# Altium footprint library DoryPcbLib.PcbLib: 24 footprints (part 1 of 2)
Each footprint in its own frame and in the unit in brackets; x right, y up, seen from the top. Pads: shape width x height; smd on the part's side, far side on the other; paste and mask are expansions set on the pad; w line width, h text height; cw(c..) or ccw(c..) is an arc to the next point about the centre after c.
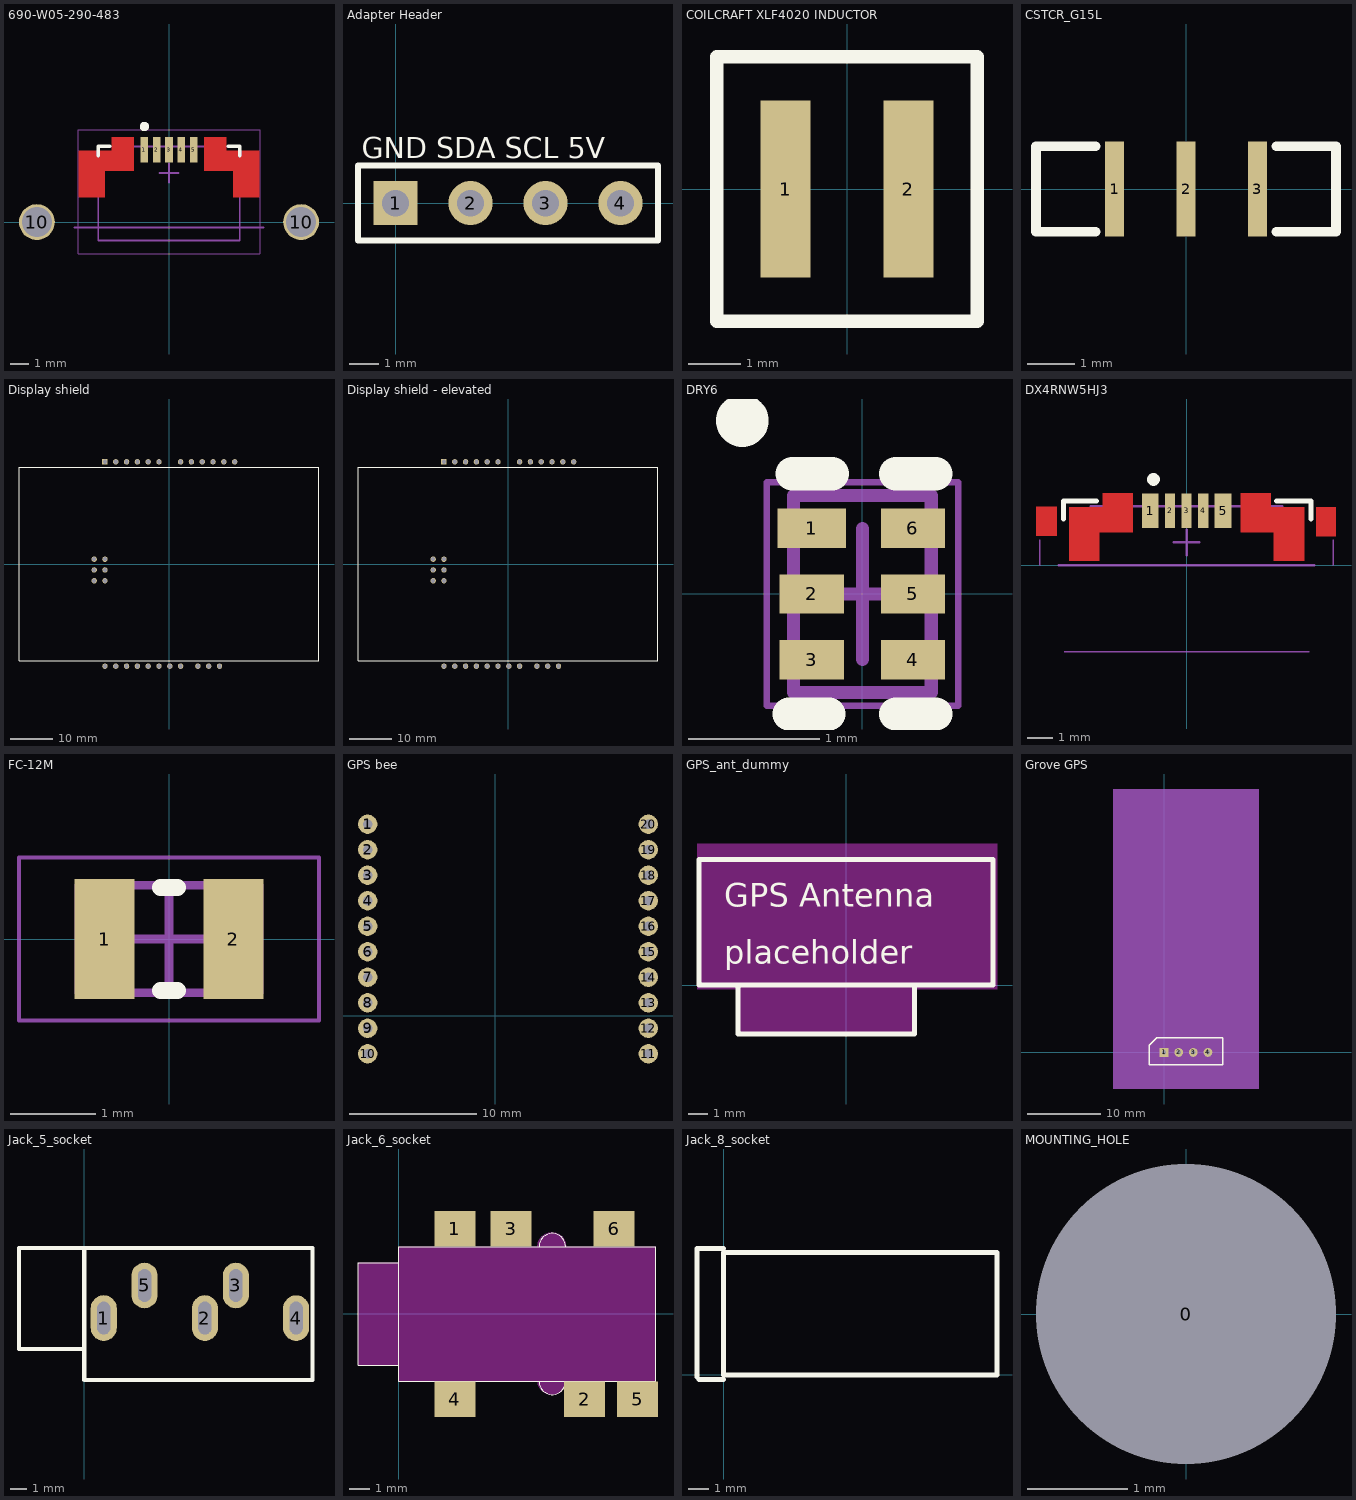
[diagram p0: the footprints below, top view; thin cyan lines are the x and y axes]

## 690-W05-290-483 [mm] "USB Micro-AB Connector, 5-Leads, Pitch 0.65mm"
height 3.625
pads (7):
  rect 0.4x1.35 smd: 1(-1.3,3.838) 2(-0.65,3.837) 3(0,3.838) 4(0.65,3.838) 5(1.3,3.838)
  round 1.9 hole 1.6: 10(-7,0) 10(7,0)
Top Layer:
  rectangle: 1.85,2.7 3.05,4.5
  rectangle: -3.05,2.7 -1.85,4.5
  rectangle: 1.85,2.7 4.79,3.8
  rectangle: -4.79,2.7 -1.85,3.8
  rectangle: 3.4,1.3 4.79,3.8
  rectangle: -4.79,1.3 -3.4,3.8
Top Overlay:
  circle w0.25: c-1.3,5.063 r0.125
  lines w0.2: -3.75,3.51 -3.75,4.012 -3.149,4.012 ; 3.149,4.012 3.75,4.012 3.75,3.51
Mechanical 3:
  lines w0.1: -5,-0.288 5,-0.288
  text "board edge" at -7.112,-0.321 h0.2
Mechanical 13:
  lines w0.1: -3.75,-0.988 -3.75,4.013 3.75,4.013 3.75,-0.987 -3.75,-0.988
Mechanical 15:
  lines w0.05: -4.8,4.888 4.8,4.888 4.8,-1.686 -4.8,-1.686 -4.8,4.888
  lines w0.1: -0.5,2.6 0.5,2.6 ; 0,2.1 0,3.1
3D body: height 0.55, standoff -0.6, extent -4.373,0.684 -3.603,1.534
3D body: height 1.79, standoff 0.71, extent -4,-1.587 -3.5,-0.986
3D body: height 0.25, standoff 0, extent -1.45,3.141 -1.143,4.284
3D body: height 2.5, standoff 2.25, extent -0.967,3.862 0.972,4.462
3D body: height 0.25, standoff 0, extent -0.8,3.141 -0.493,4.284
3D body: height 0.25, standoff 0, extent -0.15,3.141 0.157,4.284
3D body: height 0.25, standoff 0, extent 0.5,3.141 0.807,4.284
3D body: height 0.25, standoff 0, extent 1.15,3.141 1.457,4.285
3D body: height 0.25, standoff -0.32, extent -3.05,-1.586 3.05,-0.986
3D body: height 1.79, standoff 0.71, extent 3.5,-1.588 4,-0.986
3D body: height 0.55, standoff -0.6, extent 3.603,0.684 4.373,1.535
3D body: height 0.25, standoff 0, extent -3.25,2.812 3.25,3.143
3D body: height 2.5, standoff -0.01, extent -3.754,2.813 3.757,4.013
3D body: height 2.25, standoff -0.85, extent -2.379,3.862 2.387,4.463
3D body: height 2.51, standoff -0.01, extent -3.756,-0.987 3.757,2.813

## Adapter Header [mm] "Connector; Header; 4 Position"
pads (4):
  rect 1.5x1.5 hole 0.9: 1(0,0)
  round 1.5 hole 0.9: 2(2.54,0) 3(5.08,0) 4(7.62,0)
Top Overlay:
  lines w0.2: -1.27,-1.27 8.89,-1.27 8.89,1.27 -1.27,1.27 -1.27,-1.27
  text "GND SDA SCL 5V" at -1.143,1.524 h0.7

## COILCRAFT XLF4020 INDUCTOR [mil]
pads (2):
  rect 38x134 smd: 1(-46.5,0) 2(46.5,0)
Top Overlay:
  lines w10: -98.5,-100 -98.5,0 -98.5,100 98.5,100 98.5,-100 -98.5,-100

## CSTCR_G15L [mm]
pads (3):
  rect 0.4x2 smd: 1(-1.5,0) 2(0,0) 3(1.5,0)
Top Overlay:
  lines w0.2: -1.9,-0.9 -3.15,-0.9 -3.15,0.9 -1.9,0.9 ; 1.9,-0.9 3.15,-0.9 3.15,0.9 1.9,0.9

## Display shield [mil]
pads (29):
  round 50 hole 39: 3V3(507.5,945) 5V(407.5,945) A0(-92.5,945) A1(-192.5,945) A2(-292.5,945) A3(-392.5,945) A4(-492.5,945) D0(-592.5,-945) D1(-492.5,-945) D2(-392.5,-945) D3(-292.5,-945) D4(-192.5,-945) D5(-92.5,-945) D6(7.5,-945) D7(107.5,-945) D8(267.5,-945) D9(367.5,-945) D10(467.5,-945) GND0(207.5,945) GND1(307.5,945) GND2(-692.5,45) MISO(-592.5,-155) MOSI(-692.5,-55) NC0(-692.5,-155) NC1(-592.5,45) RST(607.5,945) SCK(-592.5,-55) VIN(107.5,945)
  rect 50x50 hole 39: A5(-592.5,945)
Top Overlay:
  lines w10: -1387.5,-895 1387.5,-895 1387.5,895 -1387.5,895 -1387.5,-895

## Display shield - elevated [mil]
pads (29):
  round 50 hole 39: 3V3(507.5,945) 5V(407.5,945) A0(-92.5,945) A1(-192.5,945) A2(-292.5,945) A3(-392.5,945) A4(-492.5,945) D0(-592.5,-945) D1(-492.5,-945) D2(-392.5,-945) D3(-292.5,-945) D4(-192.5,-945) D5(-92.5,-945) D6(7.5,-945) D7(107.5,-945) D8(267.5,-945) D9(367.5,-945) D10(467.5,-945) GND0(207.5,945) GND1(307.5,945) GND2(-692.5,45) MISO(-592.5,-155) MOSI(-692.5,-55) NC0(-692.5,-155) NC1(-592.5,45) RST(607.5,945) SCK(-592.5,-55) VIN(107.5,945)
  rect 50x50 hole 39: A5(-592.5,945)
Top Overlay:
  lines w10: -1387.5,-895 -1387.5,895 1387.5,895 1387.5,-895 -1387.5,-895
3D body: height 602.36, standoff 106.3, extent -1380.26,-1075 2025.25,1070.67

## DRY6 [mm] "PSON, 6-Leads, Body 1x1.45mm, Pitch 0.5mm, TI Recommended"
height 0.6
pads (6):
  rect 0.52x0.3 smd paste+0 mask+0.05: 1(-0.385,0.5)
  rect 0.49x0.3 smd paste+0 mask+0.05: 2(-0.385,0) 3(-0.385,-0.5) 4(0.385,-0.5) 5(0.385,0) 6(0.385,0.5)
Top Overlay:
  circle w0.3: c-0.914,1.321 r0.05
  lines w0.254: -0.559,-0.914 -0.254,-0.914 ; -0.533,0.914 -0.229,0.914 ; 0.254,-0.914 0.559,-0.914 ; 0.254,0.914 0.559,0.914
Mechanical 13:
  lines w0.1: -0.525,-0.75 -0.525,0.75 0.525,0.75 0.525,-0.75 -0.525,-0.75
Mechanical 15:
  lines w0.05: -0.73,-0.85 -0.73,0.85 0.73,0.85 0.73,-0.85 -0.73,-0.85
  lines w0.1: -0.5,0 0.5,0 ; 0,-0.5 0,0.5
3D body: height 0.6, standoff 0, extent -0.525,-0.75 0.525,0.75

## DX4RNW5HJ3 [mm] "USB Micro-AB Connector, 5-Leads, Pitch 0.65mm"
height 3.625
pads (5):
  rect 0.65x1.35 smd: 1(-1.425,2.137) 5(1.425,2.137)
  rect 0.4x1.35 smd: 2(-0.65,2.137) 3(0,2.137) 4(0.65,2.137)
Top Layer:
  rectangle: -5.9,1.15 -5.075,2.3
  rectangle: 5.075,1.125 5.85,2.275
  rectangle: 2.1,1.275 3.3,2.825
  rectangle: -3.3,1.275 -2.1,2.825
  rectangle: 2.1,1.275 4.61,2.275
  rectangle: 3.41,0.175 4.61,2.275
  rectangle: -4.61,0.175 -3.41,2.275
  rectangle: -4.61,1.275 -2.1,2.275
Top Overlay:
  circle w0.25: c-1.3,3.362 r0.125
  lines w0.2: -4.825,1.809 -4.825,2.525 -3.525,2.525 ; 3.525,2.525 4.875,2.525 4.875,1.809
Mechanical 3:
  lines w0.1: -5,0 5,0
  text "board edge" at -7.112,0 h0.2
Mechanical 13:
  lines w0.1: -3.75,2.312 3.75,2.312
Mechanical 15:
  lines w0.05: -5.75,0 -5.75,1 ; -4.8,-3.387 4.8,-3.387 ; 5.75,0 5.75,1
  lines w0.1: -0.5,0.899 0.5,0.899 ; 0,0.399 0,1.399
3D body: height 0.25, standoff 0, extent -1.45,1.441 -1.143,2.584
3D body: height 0.25, standoff 0, extent -0.8,1.441 -0.493,2.584
3D body: height 0.25, standoff 0, extent -0.15,1.441 0.157,2.584
3D body: height 0.25, standoff 0, extent 1.15,1.441 1.457,2.584
3D body: height 0.25, standoff 0, extent 0.5,1.441 0.807,2.584
3D body: height 3.92, standoff -0.53, extent -5.75,-3.3 5.75,1.7

## FC-12M [mm] "Epson kHz range crystal unit"
height 0.6
pads (2):
  rect 0.7x1.4 smd: 1(-0.75,0) 2(0.75,0)
Top Overlay:
  lines w0.2: -0.1,-0.6 0.1,-0.6 ; -0.1,0.6 0.1,0.6
Mechanical 13:
  lines w0.1: -1.05,-0.625 1.05,-0.625 1.05,0.625 -1.05,0.625 -1.05,-0.625
Mechanical 15:
  lines w0.05: -1.75,-0.95 1.75,-0.95 1.75,0.95 -1.75,0.95 -1.75,-0.95
  lines w0.1: -0.5,0 0.5,0 ; 0,-0.5 0,0.5
3D body: height 0.6, standoff 0, extent 0.35,-0.625 1.05,0.625
3D body: height 0.6, standoff 0, extent -1.05,-0.625 -0.35,0.625
3D body: height 0.6, standoff 0, extent -0.35,-0.625 0.35,0.625

## GPS bee [mil]
pads (20):
  round 60 hole 30: 1(-393.7,590.55) 2(-393.7,511.81) 3(-393.7,433.07) 4(-393.7,354.33) 5(-393.7,275.59) 6(-393.7,196.85) 7(-393.7,118.11) 8(-393.7,39.37) 9(-393.7,-39.37) 10(-393.7,-118.11) 11(472.44,-118.11) 12(472.44,-39.37) 13(472.44,39.37) 14(472.44,118.11) 15(472.44,196.85) 16(472.44,275.59) 17(472.44,354.33) 18(472.44,433.07) 19(472.44,511.81) 20(472.44,590.55)
3D body: height 137.8, standoff -157.48, extent -442.92,-202.75 521.65,895.67

## GPS_ant_dummy [mil]
height 590.55
Top Overlay:
  lines w10: -216.54,0 -216.54,-98.43 137.8,-98.43 137.8,-3.94 ; -295.28,0 -295.28,251.97 295.28,251.97 295.28,0 -295.28,0
  text "placeholder" at -244.09,43.31 h47.24
  text "GPS Antenna" at -244.09,157.48 h47.24
Keep-Out Layer:
  board cut-out: -216.54,-98.43 137.8,-98.43 137.8,0 -216.54,0
  board cut-out: -299.21,-7.87 303.15,-7.87 303.15,283.46 -299.21,283.46
3D body: height 354.33, standoff -314.96, extent -295.28,0 295.28,251.97

## Grove GPS [mm]
pads (4):
  rect 1.2x1.2 hole 0.6: 1(0,0)
  round 1.2 hole 0.6: 2(2,0) 3(4,0) 4(6,0)
Top Overlay:
  lines w0.2: -2,-1.702 -2,1 -1,2 8,2 8,-1.702 -2,-1.702
Mechanical 15:
  rectangle: -7,-5 13,36
3D body: height 12, standoff 10, extent -7,-5 13,36

## Jack_5_socket [mm] "jack with 5 connectors (model number PJ-325 on alibaba.com)"
pads (5):
  oval 1.6x2.8 hole 0.8 slot 2 at 90 deg: 1(1.2,14.7) 2(7.4,14.7) 3(9.3,16.7) 4(13,14.7) 5(3.7,16.7)
Top Overlay:
  lines w0.254: 0,12.8 -4,12.8 -4,19 0,19 ; 0,19 0,10.9 14,10.9 14,19 0,19
3D body: height 12.21, standoff -3.59, extent -4.022,10.922 13.978,19.022

## Jack_6_socket [mm] "jack with 8 connectors Seeed SKU 32004003 (ST-PJ-930A)"
height 4.2
pads (6):
  rect 2x1.75 smd: 1(2.75,4.175) 2(9.1,-4.175) 3(5.5,4.175) 4(2.75,-4.175) 5(11.7,-4.175) 6(10.55,4.175)
Top Overlay:
  lines w0: 0,-2.5 -2,-2.5 -2,2.5 0,2.5 ; 6.87,-3.3 ccw(c7.52,-3.3) 8.17,-3.3 ; 6.87,3.3 cw(c7.52,3.3) 8.17,3.3 ; 0,-3.3 0,3.3 12.6,3.3 12.6,-3.3 0,-3.3
Keep-Out Layer:
  board cut-out: 0,-3.3 12.6,-3.3 12.6,3.3 0,3.3
  board cut-out: 6.8,3.3 8.2,3.3 8.206,3.3 8.182,3.483 8.111,3.653 7.999,3.799 7.853,3.911 7.683,3.982 7.5,4.006 7.317,3.982 7.147,3.911 7.001,3.799 6.889,3.653 6.818,3.483 6.794,3.3
  board cut-out: 8.2,-3.3 6.797,-3.3 6.817,-3.451 6.885,-3.616 6.993,-3.757 7.134,-3.865 7.299,-3.933 7.475,-3.956 7.5,-3.953 7.525,-3.956 7.701,-3.933 7.866,-3.865 8.007,-3.757 8.115,-3.616 8.183,-3.451 8.203,-3.3
  board cut-out: 0,2.5 0,-2.5 -2,-2.5 -2,2.5
3D body: height 1.9, standoff -3.1, extent -2,-4.55 12,4.55

## Jack_8_socket [mil] "jack with 8 connectors Seeed SKU 32004003 (ST-PJ-930A)"
Top Overlay:
  lines w10: -51.18,-3.94 -51.18,240.16 ; -51.18,244.09 0,244.09 ; -47.24,-8.86 0,-8.86 ; 0,0 527.56,0 527.56,236.22 0,236.22 0,0

## MOUNTING_HOLE [mil]
pads (1):
  round 60 hole 118.11: 0(0,0)